# Altium footprint library DPAK_L.PcbLib: 40 footprints (part 1 of 3)
Each footprint in its own frame and in the unit in brackets; x right, y up, seen from the top. Pads: shape width x height; smd on the part's side, far side on the other; paste and mask are expansions set on the pad; w line width, h text height; cw(c..) or ccw(c..) is an arc to the next point about the centre after c.
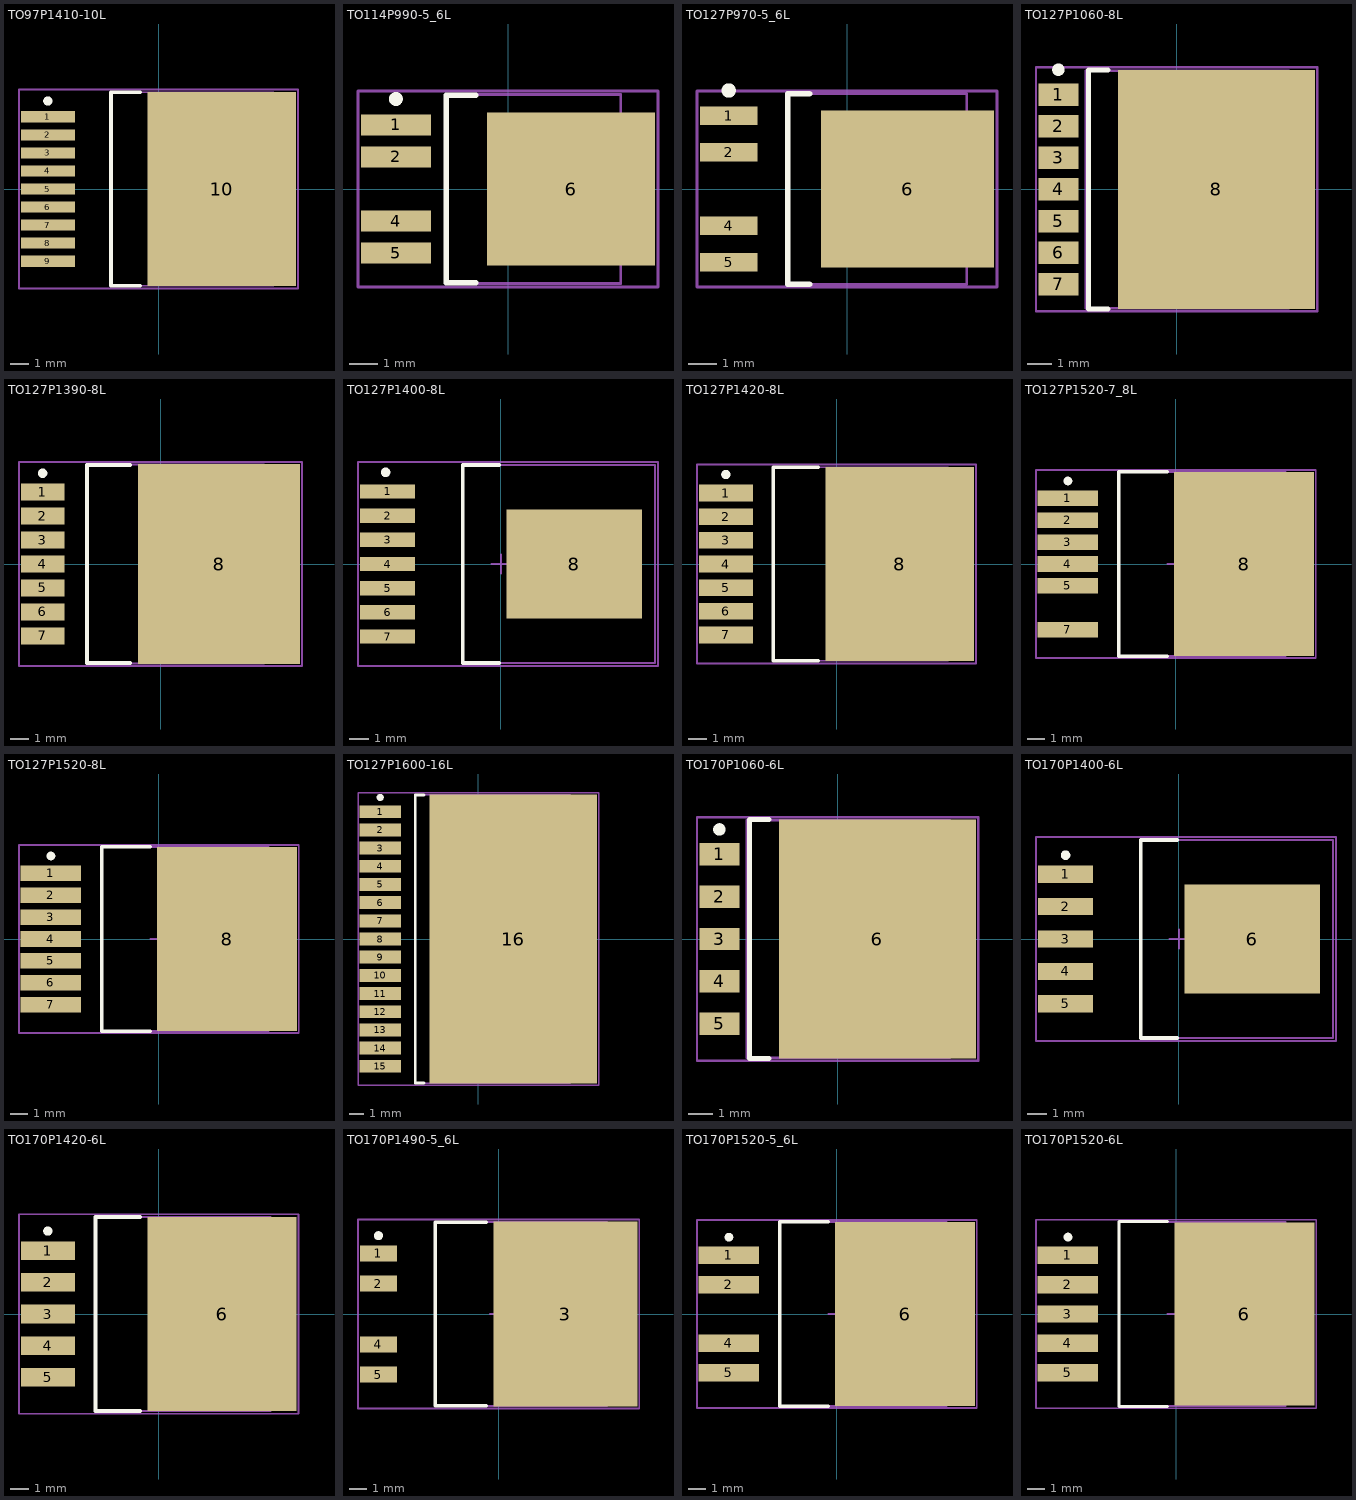
[diagram p0: the footprints below, top view; thin cyan lines are the x and y axes]

## TO97P1410-10L [mm] "D2-PAK, 10-Leads, Body 8.7x10.2mm, Pitch 0.97mm, Lead Span 14.1mm, IPC High Density"
height 4.62
pads (10):
  rect 2.9x0.6 smd: 1(-5.95,3.88) 2(-5.95,2.91) 3(-5.95,1.94) 4(-5.95,0.97) 5(-5.95,0) 6(-5.95,-0.97) 7(-5.95,-1.94) 8(-5.95,-2.91) 9(-5.95,-3.88)
  rect 8x10.45 smd: 10(3.4,0)
Top Overlay:
  circle w0.25: c-5.95,4.73 r0.125
  lines w0.2: -1,-5.2 -2.55,-5.2 -2.55,5.2 -1,5.2
Mechanical 13:
  lines w0.1: -2.55,-5.2 -2.55,5.2 6.19,5.2 6.19,-5.2 -2.55,-5.2
Mechanical 15:
  lines w0.1: -0.5,0 0.5,0 ; 0,-0.5 0,0.5 ; -7.5,-5.35 -7.5,5.35 7.5,5.35 7.5,-5.35 -7.5,-5.35
3D body: height 4.62, standoff 0, extent -2.55,-5.2 6.19,5.2

## TO114P990-5_6L [mm] "D-PAK, 6-Leads, Body 6.1x6.5mm, Pitch 1.14mm, Lead Span 9.9mm, IPC High Density"
height 2.39
pads (5):
  rect 2.5x0.75 smd: 1(-4,2.286) 2(-4,1.143) 4(-4,-1.143) 5(-4,-2.286)
  rect 6x5.45 smd: 6(2.25,0)
Top Overlay:
  circle w0.25: c-4,3.211 r0.125
  lines w0.2: -1.15,-3.35 -2.2,-3.35 -2.2,3.35 -1.15,3.35
Mechanical 13:
  lines w0.1: -2.2,-3.375 4.02,-3.375 4.02,3.375 -2.2,3.375 -2.2,-3.375
Mechanical 15:
  lines w0.1: -0.5,0 0.5,0 ; 0,-0.5 0,0.5 ; -5.35,-3.5 5.35,-3.5 5.35,3.5 -5.35,3.5 -5.35,-3.5
3D body: height 2.39, standoff 0, extent -2.2,-3.375 4.02,3.375

## TO127P970-5_6L [mm] "D-PAK, 6-Leads, Body 6.1x6.5mm, Pitch 1.27mm, Lead Span 9.7mm, IPC High Density"
height 2.4
pads (5):
  rect 2x0.65 smd: 1(-4.1,2.54) 2(-4.1,1.27) 4(-4.1,-1.27) 5(-4.1,-2.54)
  rect 6x5.45 smd: 6(2.1,0)
Top Overlay:
  circle w0.25: c-4.1,3.415 r0.125
  lines w0.2: -1.3,-3.3 -2.05,-3.3 -2.05,3.3 -1.3,3.3
Mechanical 13:
  lines w0.1: -2.05,-3.3 -2.05,3.3 4.15,3.3 4.15,-3.3 -2.05,-3.3
Mechanical 15:
  lines w0.1: -0.5,0 0.5,0 ; 0,-0.5 0,0.5 ; -5.2,-3.4 -5.2,3.4 5.2,3.4 5.2,-3.4 -5.2,-3.4
3D body: height 2.4, standoff 0, extent -2.05,-3.3 4.15,3.3

## TO127P1060-8L [mm] "D-PAK, 8-Leads, Body 8x9.4mm, Pitch 1.27mm, Lead Span 10.6mm, IPC High Density"
height 2.05
pads (8):
  rect 1.6x0.9 smd: 1(-4.75,3.81) 2(-4.75,2.54) 3(-4.75,1.27) 4(-4.75,0) 5(-4.75,-1.27) 6(-4.75,-2.54) 7(-4.75,-3.81)
  rect 7.9x9.6 smd: 8(1.6,0)
Top Overlay:
  circle w0.25: c-4.75,4.81 r0.125
  lines w0.2: -2.75,-4.8 -3.55,-4.8 -3.55,4.8 -2.75,4.8
Mechanical 13:
  lines w0.1: -3.65,-4.775 -3.65,4.775 4.5,4.775 4.5,-4.775 -3.65,-4.775
Mechanical 15:
  lines w0.1: -0.5,0 0.5,0 ; 0,-0.5 0,0.5 ; -5.65,-4.9 -5.65,4.9 5.65,4.9 5.65,-4.9 -5.65,-4.9
3D body: height 2.05, standoff 0, extent -3.65,-4.775 4.5,4.775

## TO127P1390-8L [mm] "D2-PAK, 8-Leads, Body 8.9x10.2mm, Pitch 1.27mm, Lead Span 13.9mm, IPC High Density"
height 4.57
pads (8):
  rect 2.3x0.9 smd: 1(-6.25,3.81) 2(-6.25,2.54) 3(-6.25,1.27) 4(-6.25,0) 5(-6.25,-1.27) 6(-6.25,-2.54) 7(-6.25,-3.81)
  rect 8.6x10.6 smd: 8(3.1,0)
Top Overlay:
  circle w0.25: c-6.25,4.81 r0.125
  lines w0.2: -1.6,-5.25 -3.9,-5.25 -3.9,5.25 -1.6,5.25
Mechanical 13:
  lines w0.1: -3.9,-5.275 -3.9,5.275 5.5,5.275 5.5,-5.275 -3.9,-5.275
Mechanical 15:
  lines w0.1: -0.5,0 0.5,0 ; 0,-0.5 0,0.5 ; -7.5,-5.4 -7.5,5.4 7.5,5.4 7.5,-5.4 -7.5,-5.4
3D body: height 4.57, standoff 0, extent -3.9,-5.275 5.5,5.275

## TO127P1400-8L [mm] "D2-PAK, 8-Leads, Body 9.9x10.2mm, Pitch 1.27mm, Lead Span 14mm, IPC High Density"
height 2.1
pads (8):
  rect 2.9x0.75 smd: 1(-5.95,3.81) 2(-5.95,2.54) 3(-5.95,1.27) 4(-5.95,0) 5(-5.95,-1.27) 6(-5.95,-2.54) 7(-5.95,-3.81)
  rect 7.1x5.7 smd: 8(3.85,0)
Top Overlay:
  circle w0.25: c-6.05,4.815 r0.125
  lines w0.2: -0.1,-5.2 -2,-5.2 -2,5.2 -0.1,5.2
Mechanical 13:
  lines w0.1: -2,-5.2 -2,5.2 8.1,5.2 8.1,-5.2 -2,-5.2
Mechanical 15:
  lines w0.1: -0.5,0 0.5,0 ; 0,-0.5 0,0.5 ; -7.5,-5.35 -7.5,5.35 8.25,5.35 8.25,-5.35 -7.5,-5.35
3D body: height 2.1, standoff 0, extent -1.999,-5.199 8.099,5.199

## TO127P1420-8L [mm] "D2-PAK, 8-Leads, Body 8.9x10.1mm, Pitch 1.27mm, Lead Span 14.2mm, IPC High Density"
height 4.65
pads (8):
  rect 2.9x0.9 smd: 1(-5.95,3.81) 2(-5.95,2.54) 3(-5.95,1.27) 4(-5.95,0) 5(-5.95,-1.27) 6(-5.95,-2.54) 7(-5.95,-3.81)
  rect 8x10.45 smd: 8(3.4,0)
Top Overlay:
  circle w0.25: c-5.95,4.81 r0.125
  lines w0.2: -1,-5.2 -3.4,-5.2 -3.4,5.2 -1,5.2
Mechanical 13:
  lines w0.1: -3.4,-5.2 6,-5.2 6,5.2 -3.4,5.2 -3.4,-5.2
Mechanical 15:
  lines w0.1: -0.5,0 0.5,0 ; 0,-0.5 0,0.5 ; -7.5,-5.35 7.5,-5.35 7.5,5.35 -7.5,5.35 -7.5,-5.35
3D body: height 4.65, standoff 0, extent -3.4,-5.2 6,5.2

## TO127P1520-7_8L [mm] "D2-PAK, 8-Leads, Body 9x10.2mm, Pitch 1.27mm, Lead Span 15.2mm, IPC High Density"
height 4.83
pads (7):
  rect 3.5x0.9 smd: 1(-6.25,3.81) 2(-6.25,2.54) 3(-6.25,1.27) 4(-6.25,0) 5(-6.25,-1.27) 7(-6.25,-3.81)
  rect 8.1x10.65 smd: 8(3.95,0)
Top Overlay:
  circle w0.25: c-6.25,4.81 r0.125
  lines w0.2: -0.5,-5.35 -3.3,-5.35 -3.3,5.35 -0.5,5.35
Mechanical 13:
  lines w0.1: -3.3,-5.325 -3.3,5.325 6.35,5.325 6.35,-5.325 -3.3,-5.325
Mechanical 15:
  lines w0.1: -0.5,0 0.5,0 ; 0,-0.5 0,0.5 ; -8.1,-5.45 -8.1,5.45 8.1,5.45 8.1,-5.45 -8.1,-5.45
3D body: height 4.83, standoff 0, extent -3.3,-5.325 6.35,5.325

## TO127P1520-8L [mm] "D2-PAK, 8-Leads, Body 9x10.2mm, Pitch 1.27mm, Lead Span 15.2mm, IPC High Density"
height 4.83
pads (8):
  rect 3.5x0.9 smd: 1(-6.25,3.81) 2(-6.25,2.54) 3(-6.25,1.27) 4(-6.25,0) 5(-6.25,-1.27) 6(-6.25,-2.54) 7(-6.25,-3.81)
  rect 8.1x10.65 smd: 8(3.95,0)
Top Overlay:
  circle w0.25: c-6.25,4.81 r0.125
  lines w0.2: -0.5,-5.35 -3.3,-5.35 -3.3,5.35 -0.5,5.35
Mechanical 13:
  lines w0.1: -3.3,-5.325 -3.3,5.325 6.35,5.325 6.35,-5.325 -3.3,-5.325
Mechanical 15:
  lines w0.1: -0.5,0 0.5,0 ; 0,-0.5 0,0.5 ; -8.1,-5.45 -8.1,5.45 8.1,5.45 8.1,-5.45 -8.1,-5.45
3D body: height 4.83, standoff 0, extent -3.3,-5.325 6.35,5.325

## TO127P1600-16L [mm] "TO, 16-Leads, Body 10.7x20mm, Pitch 1.27mm, Lead Span 16mm, IPC High Density"
height 4.65
pads (16):
  rect 2.9x0.9 smd: 1(-6.85,8.89) 2(-6.85,7.62) 3(-6.85,6.35) 4(-6.85,5.08) 5(-6.85,3.81) 6(-6.85,2.54) 7(-6.85,1.27) 8(-6.85,0) 9(-6.85,-1.27) 10(-6.85,-2.54) 11(-6.85,-3.81) 12(-6.85,-5.08) 13(-6.85,-6.35) 14(-6.85,-7.62) 15(-6.85,-8.89)
  rect 11.7x20.2 smd: 16(2.45,0)
Top Overlay:
  circle w0.25: c-6.85,9.89 r0.125
  lines w0.2: -3.8,-10.05 -4.4,-10.05 -4.4,10.05 -3.8,10.05
Mechanical 13:
  lines w0.1: -4.4,-10.075 -4.4,10.075 6.42,10.075 6.42,-10.075 -4.4,-10.075
Mechanical 15:
  lines w0.1: -0.5,0 0.5,0 ; 0,-0.5 0,0.5 ; -8.4,-10.2 -8.4,10.2 8.4,10.2 8.4,-10.2 -8.4,-10.2
3D body: height 4.65, standoff 0, extent -4.4,-10.075 6.42,10.075

## TO170P1060-6L [mm] "D-PAK, 6-Leads, Body 8x9.4mm, Pitch 1.7mm, Lead Span 10.6mm, IPC High Density"
height 2.05
pads (6):
  rect 1.6x0.9 smd: 1(-4.75,3.4) 2(-4.75,1.7) 3(-4.75,0) 4(-4.75,-1.7) 5(-4.75,-3.4)
  rect 7.9x9.6 smd: 6(1.6,0)
Top Overlay:
  circle w0.25: c-4.75,4.4 r0.125
  lines w0.2: -2.75,-4.8 -3.55,-4.8 -3.55,4.8 -2.75,4.8
Mechanical 13:
  lines w0.1: -3.65,-4.775 -3.65,4.775 4.5,4.775 4.5,-4.775 -3.65,-4.775
Mechanical 15:
  lines w0.1: -0.5,0 0.5,0 ; 0,-0.5 0,0.5 ; -5.65,-4.9 -5.65,4.9 5.65,4.9 5.65,-4.9 -5.65,-4.9
3D body: height 2.05, standoff 0, extent -3.65,-4.775 4.5,4.775

## TO170P1400-6L [mm] "D2-PAK, 6-Leads, Body 9.9x10.2mm, Pitch 1.7mm, Lead Span 14mm, IPC High Density"
height 2.1
pads (6):
  rect 2.9x0.9 smd: 1(-5.95,3.4) 2(-5.95,1.7) 3(-5.95,0) 4(-5.95,-1.7) 5(-5.95,-3.4)
  rect 7.1x5.7 smd: 6(3.85,0)
Top Overlay:
  circle w0.25: c-5.95,4.4 r0.125
  lines w0.2: -0.1,-5.2 -2,-5.2 -2,5.2 -0.1,5.2
Mechanical 13:
  lines w0.1: -2,-5.2 -2,5.2 8.1,5.2 8.1,-5.2 -2,-5.2
Mechanical 15:
  lines w0.1: -0.5,0 0.5,0 ; 0,-0.5 0,0.5 ; -7.5,-5.35 -7.5,5.35 8.25,5.35 8.25,-5.35 -7.5,-5.35
3D body: height 2.1, standoff 0, extent -1.999,-5.199 8.099,5.199

## TO170P1420-6L [mm] "D2-PAK, 6-Leads, Body 8.9x10.1mm, Pitch 1.7mm, Lead Span 14.2mm, IPC High Density"
height 4.65
pads (6):
  rect 2.9x1 smd: 1(-5.95,3.4) 2(-5.95,1.7) 3(-5.95,0) 4(-5.95,-1.7) 5(-5.95,-3.4)
  rect 8x10.4 smd: 6(3.4,0)
Top Overlay:
  circle w0.25: c-5.95,4.45 r0.125
  lines w0.2: -1,-5.2 -3.4,-5.2 -3.4,5.2 -1,5.2
Mechanical 13:
  lines w0.1: -3.4,-5.2 6,-5.2 6,5.2 -3.4,5.2 -3.4,-5.2
Mechanical 15:
  lines w0.1: -0.5,0 0.5,0 ; 0,-0.5 0,0.5 ; -7.5,-5.35 7.5,-5.35 7.5,5.35 -7.5,5.35 -7.5,-5.35
3D body: height 4.65, standoff 0, extent -3.4,-5.2 6,5.2

## TO170P1490-5_6L [mm] "D2-PAK, 6-Leads, Body 9.1x10.3mm, Pitch 1.7mm, Lead Span 14.9mm, IPC High Density"
height 4.55
pads (5):
  rect 2.1x0.9 smd: 1(-6.75,3.4) 2(-6.75,1.7) 4(-6.75,-1.7) 5(-6.75,-3.4)
  rect 8.1x10.4 smd: 3(3.75,0)
Top Overlay:
  circle w0.25: c-6.75,4.4 r0.125
  lines w0.2: -0.7,-5.15 -3.55,-5.15 -3.55,5.15 -0.7,5.15
Mechanical 13:
  lines w0.1: -3.55,-5.175 -3.55,5.175 6.1,5.175 6.1,-5.175 -3.55,-5.175
Mechanical 15:
  lines w0.1: -0.5,0 0.5,0 ; 0,-0.5 0,0.5 ; -7.9,-5.3 -7.9,5.3 7.9,5.3 7.9,-5.3 -7.9,-5.3
3D body: height 4.55, standoff 0, extent -3.55,-5.175 6.1,5.175

## TO170P1520-5_6L [mm] "D2-PAK, 6-Leads, Body 9x10.2mm, Pitch 1.7mm, Lead Span 15.2mm, IPC High Density"
height 4.83
pads (5):
  rect 3.5x1 smd: 1(-6.25,3.4) 2(-6.25,1.7) 4(-6.25,-1.7) 5(-6.25,-3.4)
  rect 8.1x10.65 smd: 6(3.95,0)
Top Overlay:
  circle w0.25: c-6.25,4.45 r0.125
  lines w0.2: -0.5,-5.35 -3.3,-5.35 -3.3,5.35 -0.5,5.35
Mechanical 13:
  lines w0.1: -3.3,-5.325 -3.3,5.325 6.35,5.325 6.35,-5.325 -3.3,-5.325
Mechanical 15:
  lines w0.1: -0.5,0 0.5,0 ; 0,-0.5 0,0.5 ; -8.1,-5.45 -8.1,5.45 8.1,5.45 8.1,-5.45 -8.1,-5.45
3D body: height 4.83, standoff 0, extent -3.3,-5.325 6.35,5.325

## TO170P1520-6L [mm] "D2-PAK, 6-Leads, Body 9x10.2mm, Pitch 1.7mm, Lead Span 15.2mm, IPC High Density"
height 4.83
pads (6):
  rect 3.5x1 smd: 1(-6.25,3.4) 2(-6.25,1.7) 3(-6.25,0) 4(-6.25,-1.7) 5(-6.25,-3.4)
  rect 8.1x10.6 smd: 6(3.95,0)
Top Overlay:
  circle w0.25: c-6.25,4.45 r0.125
  lines w0.2: -0.5,-5.35 -3.3,-5.35 -3.3,5.35 -0.5,5.35
Mechanical 13:
  lines w0.1: -3.3,-5.325 -3.3,5.325 6.35,5.325 6.35,-5.325 -3.3,-5.325
Mechanical 15:
  lines w0.1: -0.5,0 0.5,0 ; 0,-0.5 0,0.5 ; -8.1,-5.45 -8.1,5.45 8.1,5.45 8.1,-5.45 -8.1,-5.45
3D body: height 4.83, standoff 0, extent -3.3,-5.325 6.35,5.325